# Altium footprint library USB3.0_Standard_A_9P-180.PcbLib: 1 footprints
Each footprint in its own frame and in the unit in brackets; x right, y up, seen from the top. Pads: shape width x height; smd on the part's side, far side on the other; paste and mask are expansions set on the pad; w line width, h text height; cw(c..) or ccw(c..) is an arc to the next point about the centre after c.
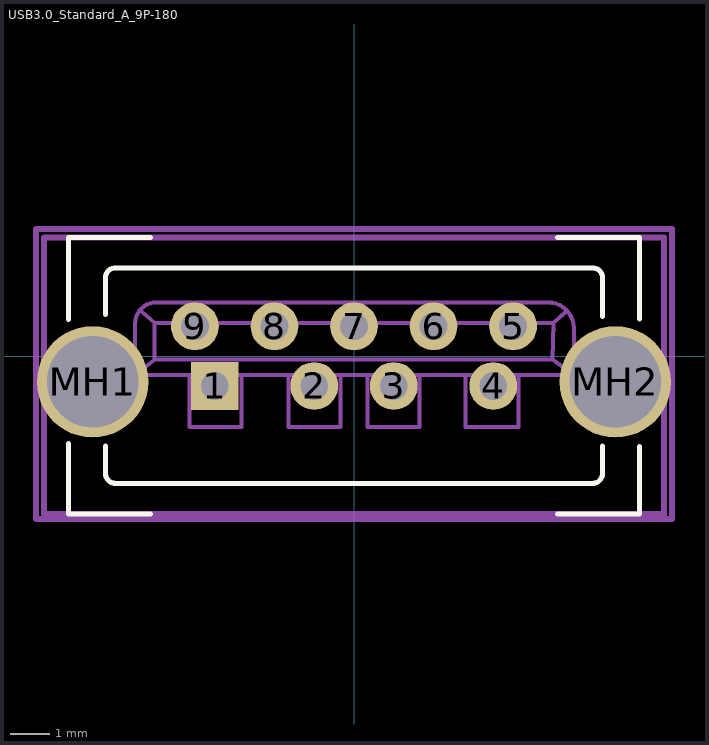
[diagram p0: the footprint, top view; thin cyan lines are the x and y axes]

## USB3.0_Standard_A_9P-180 [mm]
pads (11):
  rect 1.2x1.2 hole 0.7 mask+0.076: 1(-3.5,-0.75)
  round 1.2 hole 0.7: 2(-1,-0.75) 3(1,-0.75) 4(3.5,-0.75) 5(4,0.75) 6(2,0.75) 7(0,0.75) 8(-2,0.75) 9(-4,0.75)
  round 2.8 hole 2.3: MH1(-6.57,-0.65) MH2(6.57,-0.65)
Top Overlay:
  lines w0.127: -7.175,-2.197 -7.175,-3.965 -5.117,-3.965 ; -7.175,0.927 -7.175,2.985 -5.117,2.985 ; -6.25,-2.262 -6.25,-2.95 ccw(c-6,-2.95) -6,-3.2 ; -6.25,1.043 -6.25,1.97 cw(c-6,1.97) -6,2.22 6,2.22 cw(c6,1.97) 6.25,1.97 6.25,0.992 ; -6.03,-3.2 6,-3.2 ccw(c6,-2.95) 6.25,-2.95 6.25,-2.262 ; 5.117,-3.965 7.175,-3.965 7.175,-2.273 ; 5.117,2.985 7.175,2.985 7.175,0.927
Mechanical 13:
  lines w0.102: -5.354,1.136 -5.012,0.836 ; -4.133,-0.492 -4.133,-1.777 -2.827,-1.777 -2.827,-0.492 ; -1.649,-0.492 -1.649,-1.777 -0.343,-1.777 -0.343,-0.514 ; 0.343,-0.535 0.343,-1.777 1.649,-1.777 1.649,-0.492 1.671,-0.492 ; 2.806,-0.514 2.806,-1.777 4.134,-1.777 4.134,-0.514 ; 5.333,1.114 5.012,0.836 ; -5.483,-0.471 5.526,-0.471 ; -5.483,-0.471 -5.504,-0.471 -5.504,0.814 cw(c-4.969,0.814) -4.969,1.35 4.884,1.35 cw(c4.884,0.707) 5.526,0.707 5.526,-0.471 ; -5.483,-0.471 -5.012,-0.085 ; -5.012,-0.085 4.99,-0.085 ; -5.012,-0.085 -5.012,0.836 ; -5.012,0.836 5.012,0.836 ; 4.99,-0.085 5.526,-0.471 ; 4.99,-0.085 5.012,0.836
  lines w0.152: -7.799,-3.965 7.799,-3.965 7.799,2.985 -7.799,2.985 -7.799,-3.965
Mechanical 15:
  lines w0.152: -8,-4.1 -8,3.2 8,3.2 8,-4.1 -8,-4.1
3D body: height 15.01, standoff -3.76, extent -7.799,-3.965 7.799,2.985